# Altium footprint library Package_LGA.PcbLib: 28 footprints (part 2 of 2)
Each footprint in its own frame and in the unit in brackets; x right, y up, seen from the top. Pads: shape width x height; smd on the part's side, far side on the other; paste and mask are expansions set on the pad; w line width, h text height; cw(c..) or ccw(c..) is an arc to the next point about the centre after c.
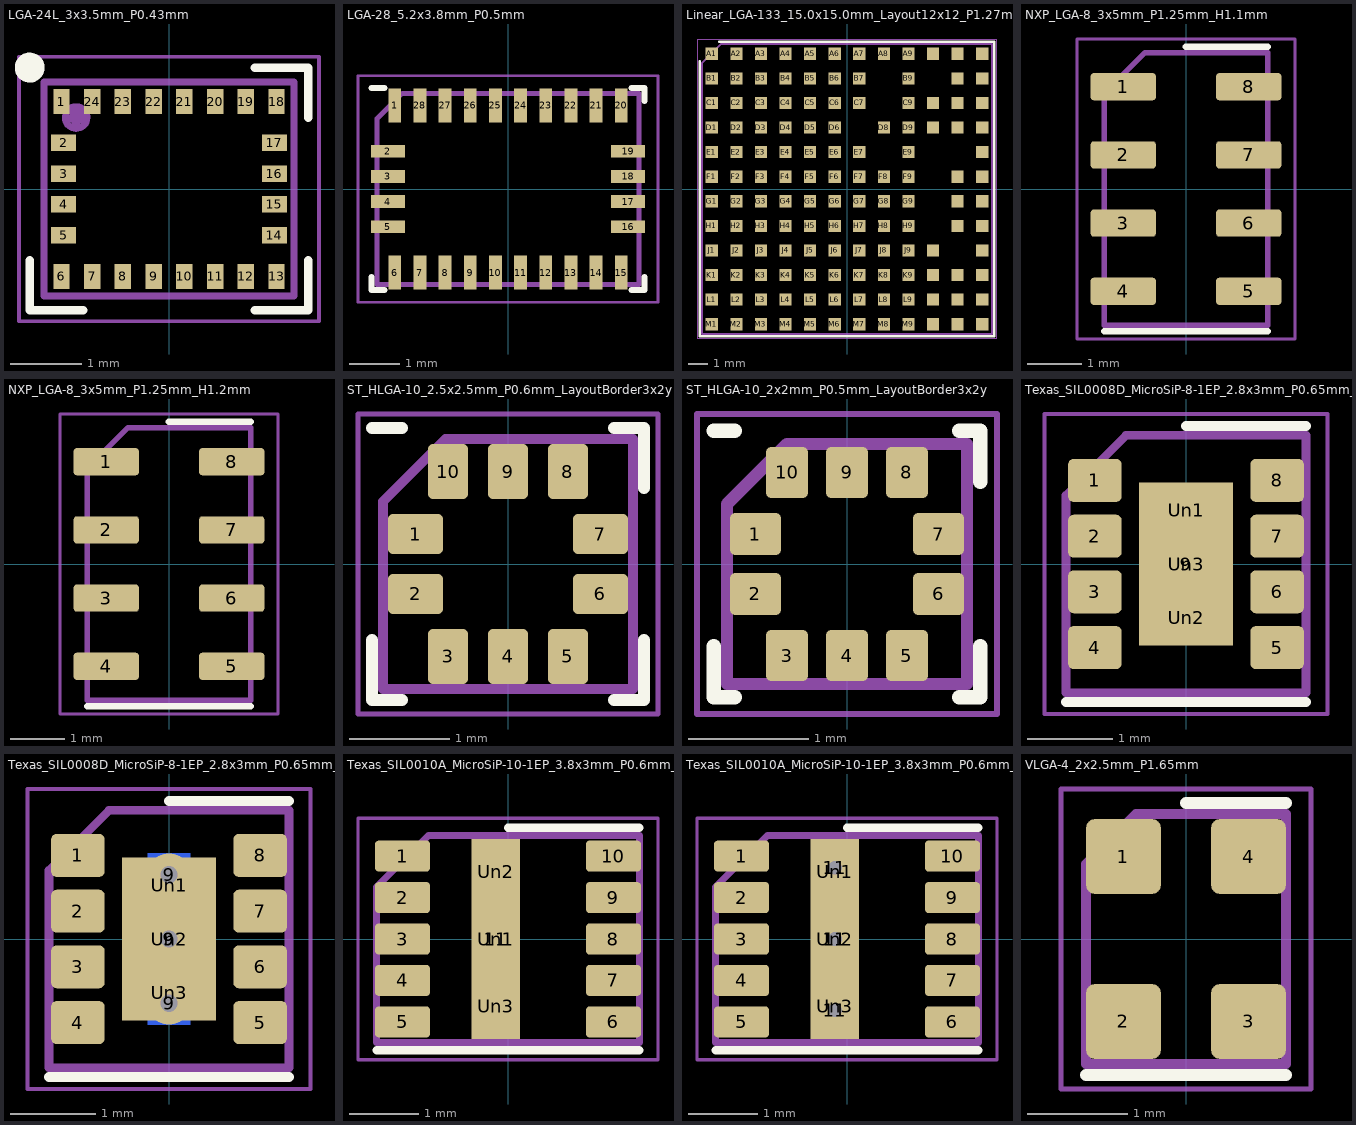
[diagram p1: the footprints below, top view; thin cyan lines are the x and y axes]

## LGA-24L_3x3.5mm_P0.43mm [mm]
pads (24):
  rect 0.23x0.35 smd: 1(-1.505,1.225) 6(-1.505,-1.225) 7(-1.075,-1.225) 8(-0.645,-1.225) 9(-0.215,-1.225) 10(0.215,-1.225) 11(0.645,-1.225) 12(1.075,-1.225) 13(1.505,-1.225) 18(1.505,1.225) 19(1.075,1.225) 20(0.645,1.225) 21(0.215,1.225) 22(-0.215,1.225) 23(-0.645,1.225) 24(-1.075,1.225)
  rect 0.35x0.23 smd: 2(-1.475,0.645) 3(-1.475,0.215) 4(-1.475,-0.215) 5(-1.475,-0.645) 14(1.475,-0.645) 15(1.475,-0.215) 16(1.475,0.215) 17(1.475,0.645)
F.SilkS:
  circle w0.12: c-1.95,1.7 r0.15
  circle w0.12: c-1.95,1.7 r0.06
  lines w0.12: -1.95,-1 -1.95,-1.7 -1.2,-1.7 ; 1.2,-1.7 1.95,-1.7 1.95,-1 ; 1.2,1.7 1.95,1.7 1.95,1
F.CrtYd:
  lines w0.05: -2.1,-1.85 2.1,-1.85 2.1,1.85 -2.1,1.85 -2.1,-1.85
F.Fab:
  circle w0.1: c-1.3,1 r0.15
  circle w0.1: c-1.3,1 r0.05
  lines w0.1: -1.75,-1.5 -1.75,1.5 1.75,1.5 1.75,-1.5 -1.75,-1.5
  text "'.Designator'" at -4.047,1.86 h1

## LGA-28_5.2x3.8mm_P0.5mm [mm]
pads (28):
  rect 0.254x0.675 smd: 1(-2.25,1.663) 6(-2.25,-1.663) 7(-1.75,-1.663) 8(-1.25,-1.663) 9(-0.75,-1.663) 10(-0.25,-1.663) 11(0.25,-1.663) 12(0.75,-1.663) 13(1.25,-1.663) 14(1.75,-1.663) 15(2.25,-1.663) 20(2.25,1.663) 21(1.75,1.663) 22(1.25,1.663) 23(0.75,1.663) 24(0.25,1.663) 25(-0.25,1.663) 26(-0.75,1.663) 27(-1.25,1.663) 28(-1.75,1.663)
  rect 0.675x0.254 smd: 2(-2.388,0.75) 3(-2.388,0.25) 4(-2.388,-0.25) 5(-2.388,-0.75) 16(2.388,-0.75) 17(2.388,-0.25) 18(2.388,0.25) 19(2.388,0.75)
F.SilkS:
  lines w0.12: -2.71,-1.75 -2.71,-2.01 -2.45,-2.01 ; -2.71,2.01 -2.45,2.01 ; 2.45,-2.01 2.71,-2.01 2.71,-1.75 ; 2.45,2.01 2.71,2.01 2.71,1.75
F.CrtYd:
  lines w0.05: -2.98,-2.25 2.98,-2.25 2.98,2.25 -2.98,2.25 -2.98,-2.25
F.Fab:
  lines w0.1: -2.6,-1.9 2.6,-1.9 2.6,1.9 -2.1,1.9 -2.6,1.4 -2.6,-1.9
  text "'.Designator'" at -4.396,-0.869 h1.1

## Linear_LGA-133_15.0x15.0mm_Layout12x12_P1.27mm [mm]
pads (133):
  rect 0.63x0.63 smd: A1(-6.985,6.985) A2(-5.715,6.985) A3(-4.445,6.985) A4(-3.175,6.985) A5(-1.905,6.985) A6(-0.635,6.985) A7(0.635,6.985) A8(1.905,6.985) A9(3.175,6.985) A10(4.445,6.985) A11(5.715,6.985) A12(6.985,6.985) B1(-6.985,5.715) B2(-5.715,5.715) B3(-4.445,5.715) B4(-3.175,5.715) B5(-1.905,5.715) B6(-0.635,5.715) B7(0.635,5.715) B9(3.175,5.715) B11(5.715,5.715) B12(6.985,5.715) C1(-6.985,4.445) C2(-5.715,4.445) C3(-4.445,4.445) C4(-3.175,4.445) C5(-1.905,4.445) C6(-0.635,4.445) C7(0.635,4.445) C9(3.175,4.445) C10(4.445,4.445) C11(5.715,4.445) C12(6.985,4.445) D1(-6.985,3.175) D2(-5.715,3.175) D3(-4.445,3.175) D4(-3.175,3.175) D5(-1.905,3.175) D6(-0.635,3.175) D8(1.905,3.175) D9(3.175,3.175) D10(4.445,3.175) D11(5.715,3.175) D12(6.985,3.175) E1(-6.985,1.905) E2(-5.715,1.905) E3(-4.445,1.905) E4(-3.175,1.905) E5(-1.905,1.905) E6(-0.635,1.905) E7(0.635,1.905) E9(3.175,1.905) E12(6.985,1.905) F1(-6.985,0.635) F2(-5.715,0.635) F3(-4.445,0.635) F4(-3.175,0.635) F5(-1.905,0.635) F6(-0.635,0.635) F7(0.635,0.635) F8(1.905,0.635) F9(3.175,0.635) F11(5.715,0.635) F12(6.985,0.635) G1(-6.985,-0.635) G2(-5.715,-0.635) G3(-4.445,-0.635) G4(-3.175,-0.635) G5(-1.905,-0.635) G6(-0.635,-0.635) G7(0.635,-0.635) G8(1.905,-0.635) G9(3.175,-0.635) G11(5.715,-0.635) G12(6.985,-0.635) H1(-6.985,-1.905) H2(-5.715,-1.905) H3(-4.445,-1.905) H4(-3.175,-1.905) H5(-1.905,-1.905) H6(-0.635,-1.905) H7(0.635,-1.905) H8(1.905,-1.905) H9(3.175,-1.905) H11(5.715,-1.905) H12(6.985,-1.905) J1(-6.985,-3.175) J2(-5.715,-3.175) J3(-4.445,-3.175) J4(-3.175,-3.175) J5(-1.905,-3.175) J6(-0.635,-3.175) J7(0.635,-3.175) J8(1.905,-3.175) J9(3.175,-3.175) J10(4.445,-3.175) J12(6.985,-3.175) K1(-6.985,-4.445) K2(-5.715,-4.445) K3(-4.445,-4.445) K4(-3.175,-4.445) K5(-1.905,-4.445) K6(-0.635,-4.445) K7(0.635,-4.445) K8(1.905,-4.445) K9(3.175,-4.445) K10(4.445,-4.445) K11(5.715,-4.445) K12(6.985,-4.445) L1(-6.985,-5.715) L2(-5.715,-5.715) L3(-4.445,-5.715) L4(-3.175,-5.715) L5(-1.905,-5.715) L6(-0.635,-5.715) L7(0.635,-5.715) L8(1.905,-5.715) L9(3.175,-5.715) L10(4.445,-5.715) L11(5.715,-5.715) L12(6.985,-5.715) M1(-6.985,-6.985) M2(-5.715,-6.985) M3(-4.445,-6.985) M4(-3.175,-6.985) M5(-1.905,-6.985) M6(-0.635,-6.985) M7(0.635,-6.985) M8(1.905,-6.985) M9(3.175,-6.985) M10(4.445,-6.985) M11(5.715,-6.985) M12(6.985,-6.985)
F.SilkS:
  lines w0.12: -7.61,6.61 -7.61,-7.61 7.61,-7.61 7.61,7.61 -6.61,7.61
F.CrtYd:
  lines w0.05: -7.75,-7.75 7.75,-7.75 7.75,7.75 -7.75,7.75 -7.75,-7.75
F.Fab:
  lines w0.1: -7.5,-7.5 7.5,-7.5 7.5,7.5 -6.5,7.5 -7.5,6.5 -7.5,-7.5
  text "'.Designator'" at -4.047,-0.84 h1

## NXP_LGA-8_3x5mm_P1.25mm_H1.1mm [mm]
pads (8):
  rrect25% 1.2x0.5 smd: 1(-1.15,1.875) 2(-1.15,0.625) 3(-1.15,-0.625) 4(-1.15,-1.875) 5(1.15,-1.875) 6(1.15,-0.625) 7(1.15,0.625) 8(1.15,1.875)
F.SilkS:
  lines w0.12: -1.5,-2.61 1.5,-2.61 ; 0,2.61 1.5,2.61
F.CrtYd:
  lines w0.05: -2,-2.75 -2,2.75 2,2.75 2,-2.75 -2,-2.75
F.Fab:
  lines w0.1: -1.5,-2.5 -1.5,1.75 -0.75,2.5 1.5,2.5 1.5,-2.5 -1.5,-2.5
  text "'.Designator'" at -3.033,-0.628 h0.75

## NXP_LGA-8_3x5mm_P1.25mm_H1.2mm [mm]
pads (8):
  rrect25% 1.2x0.5 smd: 1(-1.15,1.875) 2(-1.15,0.625) 3(-1.15,-0.625) 4(-1.15,-1.875) 5(1.15,-1.875) 6(1.15,-0.625) 7(1.15,0.625) 8(1.15,1.875)
F.SilkS:
  lines w0.12: -1.5,-2.61 1.5,-2.61 ; 0,2.61 1.5,2.61
F.CrtYd:
  lines w0.05: -2,-2.75 2,-2.75 2,2.75 -2,2.75 -2,-2.75
F.Fab:
  lines w0.1: -1.5,-2.5 -1.5,1.75 -0.75,2.5 1.5,2.5 1.5,-2.5 -1.5,-2.5
  text "'.Designator'" at -3.033,-0.628 h0.75

## ST_HLGA-10_2.5x2.5mm_P0.6mm_LayoutBorder3x2y [mm]
pads (10):
  rrect25% 0.55x0.4 smd: 1(-0.925,0.3) 2(-0.925,-0.3) 6(0.925,-0.3) 7(0.925,0.3)
  rrect25% 0.4x0.55 smd: 3(-0.6,-0.925) 4(0,-0.925) 5(0.6,-0.925) 8(0.6,0.925) 9(0,0.925) 10(-0.6,0.925)
F.SilkS:
  lines w0.12: -1.36,-0.76 -1.36,-1.36 -1.06,-1.36 ; -1.36,1.36 -1.06,1.36 ; 1.06,-1.36 1.36,-1.36 1.36,-0.76 ; 1.06,1.36 1.36,1.36 1.36,0.76
F.CrtYd:
  lines w0.05: -1.5,-1.5 -1.5,1.5 1.5,1.5 1.5,-1.5 -1.5,-1.5
F.Fab:
  lines w0.1: -1.25,-1.25 -1.25,0.625 -0.625,1.25 1.25,1.25 1.25,-1.25 -1.25,-1.25
  text "'.Designator'" at -2.506,-0.518 h0.62

## ST_HLGA-10_2x2mm_P0.5mm_LayoutBorder3x2y [mm]
pads (10):
  rrect25% 0.425x0.35 smd: 1(-0.763,0.25) 2(-0.763,-0.25) 6(0.763,-0.25) 7(0.763,0.25)
  rrect25% 0.35x0.425 smd: 3(-0.5,-0.763) 4(0,-0.763) 5(0.5,-0.763) 8(0.5,0.763) 9(0,0.763) 10(-0.5,0.763)
F.SilkS:
  lines w0.12: -1.11,-0.685 -1.11,-1.11 -0.935,-1.11 ; -1.11,1.11 -0.935,1.11 ; 0.935,-1.11 1.11,-1.11 1.11,-0.685 ; 0.935,1.11 1.11,1.11 1.11,0.685
F.CrtYd:
  lines w0.05: -1.25,-1.25 -1.25,1.25 1.25,1.25 1.25,-1.25 -1.25,-1.25
F.Fab:
  lines w0.1: -1,-1 1,-1 1,1 -0.5,1 -1,0.5 -1,-1
  text "'.Designator'" at -2.028,-0.425 h0.5

## Texas_SIL0008D_MicroSiP-8-1EP_2.8x3mm_P0.65mm_EP1.1x1.9mm [mm]
pads (12):
  rrect25% 0.625x0.5 smd: 1(-1.062,0.975) 2(-1.062,0.325) 3(-1.062,-0.325) 4(-1.062,-0.975) 5(1.062,-0.975) 6(1.062,-0.325) 7(1.062,0.325) 8(1.062,0.975)
  rect 1.1x1.9 smd: 9(0,0)
  rrect25% 0.89x0.51 on Top Paste: Un1(0,0.63) Un2(0,-0.63) Un3(0,0)
F.SilkS:
  lines w0.12: -1.4,-1.61 1.4,-1.61 ; 0,1.61 1.4,1.61
F.CrtYd:
  lines w0.05: -1.65,-1.75 -1.65,1.75 1.65,1.75 1.65,-1.75 -1.65,-1.75
F.Fab:
  lines w0.1: -1.4,-1.5 1.4,-1.5 1.4,1.5 -0.7,1.5 -1.4,0.8 -1.4,-1.5
  text "'.Designator'" at -2.828,-0.583 h0.7

## Texas_SIL0008D_MicroSiP-8-1EP_2.8x3mm_P0.65mm_EP1.1x1.9mm_ThermalVias [mm]
pads (16):
  rrect25% 0.625x0.5 smd: 1(-1.062,0.975) 2(-1.062,0.325) 3(-1.062,-0.325) 4(-1.062,-0.975) 5(1.062,-0.975) 6(1.062,-0.325) 7(1.062,0.325) 8(1.062,0.975)
  round 0.5 hole 0.2: 9(0,-0.75) 9(0,0) 9(0,0.75)
  rect 0.5x2 smd far side: 9(0,0)
  rect 1.1x1.9 smd: 9(0,0)
  rrect25% 0.95x0.55 on Top Paste: Un1(0,0.63) Un2(0,0) Un3(0,-0.63)
F.SilkS:
  lines w0.12: -1.4,-1.61 1.4,-1.61 ; 0,1.61 1.4,1.61
F.CrtYd:
  lines w0.05: -1.65,-1.75 -1.65,1.75 1.65,1.75 1.65,-1.75 -1.65,-1.75
F.Fab:
  lines w0.1: -1.4,-1.5 -1.4,0.8 -0.7,1.5 1.4,1.5 1.4,-1.5 -1.4,-1.5
  text "'.Designator'" at -2.828,-0.583 h0.7

## Texas_SIL0010A_MicroSiP-10-1EP_3.8x3mm_P0.6mm_EP0.7x2.9mm [mm]
pads (14):
  rrect25% 0.8x0.45 smd: 1(-1.525,1.2) 2(-1.525,0.6) 3(-1.525,0) 4(-1.525,-0.6) 5(-1.525,-1.2) 6(1.525,-1.2) 7(1.525,-0.6) 8(1.525,0) 9(1.525,0.6) 10(1.525,1.2)
  rect 0.7x2.9 smd: 11(-0.175,0)
  rrect25% 0.56x0.78 on Top Paste: Un1(-0.175,0) Un2(-0.175,0.97) Un3(-0.175,-0.97)
F.SilkS:
  lines w0.12: -1.9,-1.61 1.9,-1.61 ; 0,1.61 1.9,1.61
F.CrtYd:
  lines w0.05: -2.17,-1.75 2.17,-1.75 2.17,1.75 -2.17,1.75 -2.17,-1.75
F.Fab:
  lines w0.1: -1.9,-1.5 -1.9,0.75 -1.15,1.5 1.9,1.5 1.9,-1.5 -1.9,-1.5
  text "'.Designator'" at -3.842,-0.796 h0.95

## Texas_SIL0010A_MicroSiP-10-1EP_3.8x3mm_P0.6mm_EP0.7x2.9mm_ThermalVias [mm]
pads (18):
  rrect25% 0.8x0.45 smd: 1(-1.525,1.2) 2(-1.525,0.6) 3(-1.525,0) 4(-1.525,-0.6) 5(-1.525,-1.2) 6(1.525,-1.2) 7(1.525,-0.6) 8(1.525,0) 9(1.525,0.6) 10(1.525,1.2)
  round 0.5 hole 0.2: 11(-0.175,-1.03) 11(-0.175,0) 11(-0.175,1.03)
  rect 0.7x2.9 smd: 11(-0.175,0)
  rect 0.5x2.56 smd far side: 11(-0.175,0)
  rrect25% 0.65x0.9 on Top Paste: Un1(-0.175,0.97) Un2(-0.175,0) Un3(-0.175,-0.97)
F.SilkS:
  lines w0.12: -1.9,-1.61 1.9,-1.61 ; 0,1.61 1.9,1.61
F.CrtYd:
  lines w0.05: -2.17,-1.75 2.17,-1.75 2.17,1.75 -2.17,1.75 -2.17,-1.75
F.Fab:
  lines w0.1: -1.9,-1.5 -1.9,0.75 -1.15,1.5 1.9,1.5 1.9,-1.5 -1.9,-1.5
  text "'.Designator'" at -3.842,-0.796 h0.95

## VLGA-4_2x2.5mm_P1.65mm [mm]
pads (4):
  rrect25% 0.75x0.75 smd: 1(-0.625,0.825) 2(-0.625,-0.825) 3(0.625,-0.825) 4(0.625,0.825)
F.SilkS:
  lines w0.12: -1,-1.36 1,-1.36 ; 0,1.36 1,1.36
F.CrtYd:
  lines w0.05: -1.25,-1.5 -1.25,1.5 1.25,1.5 1.25,-1.5 -1.25,-1.5
F.Fab:
  lines w0.1: -1,-1.25 1,-1.25 1,1.25 -0.5,1.25 -1,0.75 -1,-1.25
  text "'.Designator'" at -2.028,-0.425 h0.5